# Altium footprint library 87227-8.PcbLib: 1 footprints
Each footprint in its own frame and in the unit in brackets; x right, y up, seen from the top. Pads: shape width x height; smd on the part's side, far side on the other; paste and mask are expansions set on the pad; w line width, h text height; cw(c..) or ccw(c..) is an arc to the next point about the centre after c.
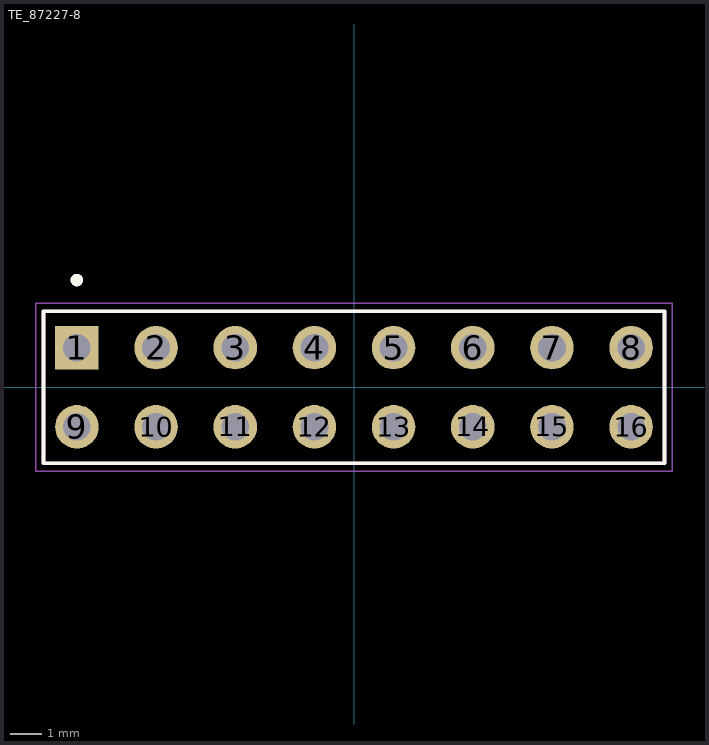
[diagram p0: the footprint, top view; thin cyan lines are the x and y axes]

## TE_87227-8 [mil]
pads (16):
  rect 55x55 hole 35: 1(-350,50)
  round 55 hole 35: 2(-250,50) 3(-150,50) 4(-50,50) 5(50,50) 6(150,50) 7(250,50) 8(350,50) 9(-350,-50) 10(-250,-50) 11(-150,-50) 12(-50,-50) 13(50,-50) 14(150,-50) 15(250,-50) 16(350,-50)
Top Overlay:
  circle w7.87: c-350,135.35 r3.94
  lines w5: -392.01,-95.98 392.01,-95.98 392.01,95.98 -392.01,95.98 -392.01,-95.98
Mechanical 13:
  circle w7.87: c-350,135.35 r3.94
  lines w5: -392.01,-95.98 392.01,-95.98 392.01,95.98 -392.01,95.98 -392.01,-95.98
Mechanical 15:
  lines w1.97: -401.85,-105.83 401.85,-105.83 401.85,105.83 -401.85,105.83 -401.85,-105.83
3D body "step_temp.STEP": height 408, standoff -125, extent -392,-96 392,96